# Altium schematic symbol library wireless.SchLib: 4 symbols
Pins are listed as number, name and electrical type; pins without a type are passive.

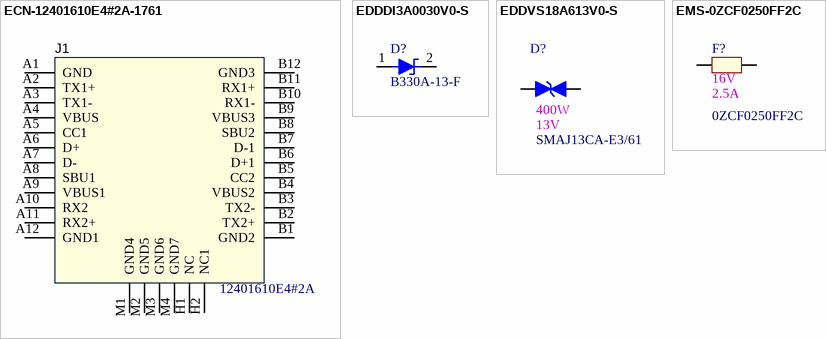
[diagram p0: symbols ECN-12401610E4#2A-1761 to EMS-0ZCF0250FF2C]

## ECN-12401610E4#2A-1761
designator J1, comment value 12401610E4#2A  (hidden comment: CONN RCP USB3.1 TYPEC 24P SMD RA)
Manufacturer: Amphenol ICC (Commercial Products); Internal Part Number: ECN-12401610E4#2A-1761; Vendor Part Number: 12401610E4#2ACT-ND; 1st Auxiliary Field: Type C USB 3.1 Gen 2; Component Height (mm): 3.43mm; Vendor Name: Digi-Key; Manufacturer Part Number: 12401610E4#2A; 2nd Auxiliary Field: *; 3rd Auxiliary Field: *; 4th Auxiliary Field: *; Part Type: CONN RCP USB3.1 TYPEC 24P SMD RA; Temp Co: *
footprint AMPHENOL_12401610E4#2A (USB Connectors USB TYPE C RCPT R/A SMT TOP MOUNT)
pins: A1 GND, A2 TX1+, A3 TX1-, A4 VBUS, A5 CC1, A6 D+, A7 D-, A8 SBU1, A9 VBUS1, A10 RX2, A11 RX2+, A12 GND1, B1 GND2, B2 TX2+, B3 TX2-, B4 VBUS2, B5 CC2, B6 D+1, B7 D-1, B8 SBU2, B9 VBUS3, B10 RX1-, B11 RX1+, B12 GND3, H1 NC, H2 NC1, M1 GND4, M2 GND5, M3 GND6, M4 GND7

## EDDDI3A0030V0-S
designator D?, comment value B330A-13-F  (hidden comment: DIODE SCHOTTKY 30V 3A SMA)
Manufacturer: Diodes Incorporated; Vendor Part Number: B330A-FDICT-ND; Internal Part Number: EDDDI3A0030V0-S; Vendor Name: Digi-Key; 3rd Auxiliary Field: RoHS Compliant; Component Height (mm): 2.40mm; Temp Co: -55°C ~ 150°C; Part Type: DIODE SCHOTTKY 30V 3A SMA; Manufacturer Part Number: B330A-13-F; 4th Auxiliary Field: *; 1st Auxiliary Field: 30V; 2nd Auxiliary Field: 3A
footprint DIOM4326X24N (Molded Diode, 2-Leads, Body 4.30x2.60mm, IPC Medium Density)
pins: 1 A, 2 K

## EDDVS18A613V0-S
designator D?, comment value SMAJ13CA-E3/61  2nd Auxiliary Field: 400W  1st Auxiliary Field: 13V  (hidden comment: TVS DIODE 13V 21.5V DO214AC)
Manufacturer: Vishay Semiconductors; Internal Part Number: EDDVS18A613V0-S; Vendor Part Number: SMAJ13CA-E3/61GICT-ND; 3rd Auxiliary Field: RoHS3 Compliant; Component Height (mm): 2.29mm; Temp Co: -55°C ~ 150°C (TJ); Vendor Name: Digi-Key; Manufacturer Part Number: SMAJ13CA-E3/61; Part Type: TVS DIODE 13V 21.5V DO214AC; 4th Auxiliary Field: *
footprint DIOM4227X23N (Molded Diode, 2-Leads, Body 4.25x2.67mm, IPC Medium Density)
pins: 1, 2

## EMS-0ZCF0250FF2C
designator F?, comment 2nd Auxiliary Field: 2.5A  Manufacturer Part Number: 0ZCF0250FF2C  1st Auxiliary Field: 16V  (hidden comment: PTC RESET FUSE 16V 2.5A 2920)
Manufacturer: Bel Fuse Inc.; Internal Part Number: EMS-0ZCF0250FF2C; Vendor Part Number: 507-1750-1-ND; 3rd Auxiliary Field: RoHS3 Compliant; Component Height (mm): 0.90mm; Temp Co: -40°C ~ 85°C; Vendor Name: Digi-Key; Value: 0ZCF0250FF2C; Part Type: PTC RESET FUSE 16V 2.5A 2920; 4th Auxiliary Field: *
footprint FUSE_0ZCF0250FF2C (PTC RESET FUSE 16V 2.5A 2920)
pins: 1, 2